# Altium footprint library Regulator.PcbLib: 3 footprints
Each footprint in its own frame and in the unit in brackets; x right, y up, seen from the top. Pads: shape width x height; smd on the part's side, far side on the other; paste and mask are expansions set on the pad; w line width, h text height; cw(c..) or ccw(c..) is an arc to the next point about the centre after c.
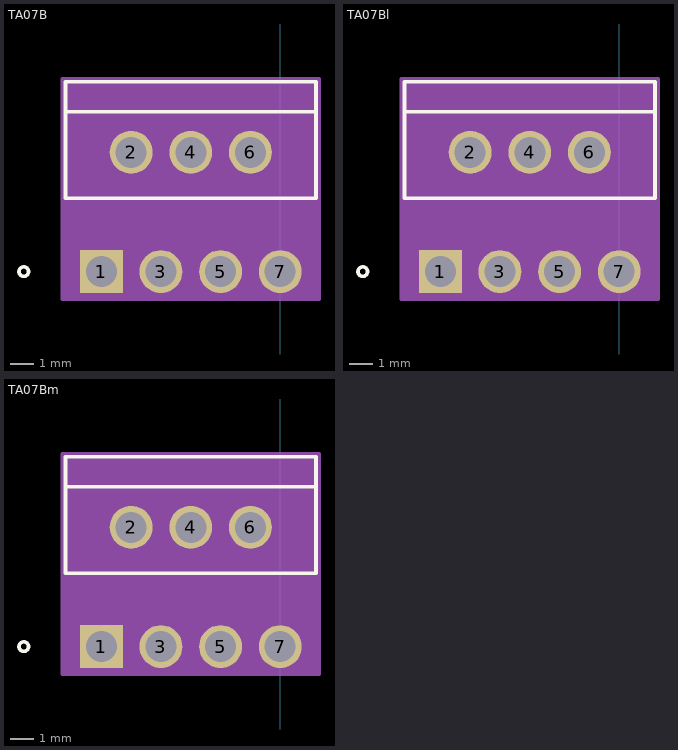
[diagram p0: the footprints below, top view; thin cyan lines are the x and y axes]

## TA07B [mil]
pads (7):
  rect 72x72 hole 52 mask+0: 1(-300,-441)
  round 72 hole 52 mask+0: 2(-250,-241) 3(-200,-441) 4(-150,-241) 5(-100,-441) 6(-50,-241) 7(0,-441)
Top Overlay:
  circle w6: c-430,-441 r8
  lines w6: -355,-173 55,-173 ; -360,-318 60,-318 60,-123 -360,-123 -360,-318
Mechanical 13:
  circle w0: c-345,-303 r8
  lines w1: -355,-178 55,-178 ; -355,-313 55,-313 55,-128 -355,-128 -355,-313
  text "TAB" at -168.75,-165.5 h25
Mechanical 15:
  region: 65,-118 -365,-118 -365,-487 65,-487
  lines w6: -365,-487 -365,-118 65,-118 65,-487 -365,-487
3D body "TA07B.stp": height 1072.99, standoff -62.99, extent -355,-463.98 55,-130

## TA07Bl [mil]
pads (7):
  rect 72x72 hole 52 mask+0: 1(-300,-441)
  round 72 hole 52 mask+0: 2(-250,-241) 3(-200,-441) 4(-150,-241) 5(-100,-441) 6(-50,-241) 7(0,-441)
Top Overlay:
  circle w6: c-430,-441 r8
  lines w6: -355,-173 55,-173 ; -360,-318 -360,-123 60,-123 60,-318 -360,-318
Mechanical 13:
  circle w0: c-345,-303 r8
  lines w1: -355,-178 55,-178 ; -355,-313 -355,-128 55,-128 55,-313 -355,-313
  text "TAB" at -168.75,-165.5 h25
Mechanical 15:
  region: 65,-118 -365,-118 -365,-487 65,-487
  lines w6: -365,-487 65,-487 65,-118 -365,-118 -365,-487
3D body: height 10, standoff 0, extent 0,0 10,10

## TA07Bm [mil]
pads (7):
  rect 72x72 hole 52 mask+0: 1(-300,-441)
  round 72 hole 52 mask+0: 2(-250,-241) 3(-200,-441) 4(-150,-241) 5(-100,-441) 6(-50,-241) 7(0,-441)
Top Overlay:
  circle w6: c-430,-441 r8
  lines w6: -355,-173 55,-173 ; -360,-318 -360,-123 60,-123 60,-318 -360,-318
Mechanical 13:
  circle w0: c-345,-303 r8
  lines w1: -355,-178 55,-178 ; -355,-313 -355,-128 55,-128 55,-313 -355,-313
  text "TAB" at -168.75,-165.5 h25
Mechanical 15:
  region: 65,-118 -365,-118 -365,-487 65,-487
  lines w6: -365,-487 65,-487 65,-118 -365,-118 -365,-487
3D body: height 10, standoff 0, extent 0,0 10,10